# EAGLE library part SOIC127P790X216-8N (library SOIC127P790X216-8N)
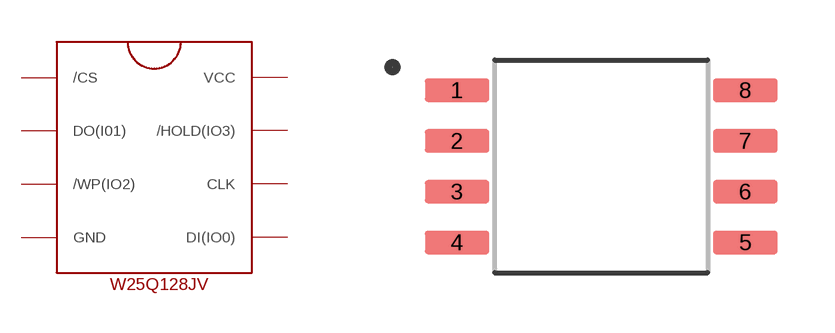
[diagram p0: symbol with the pads of SOIC127P790X216-8N; footprint SOIC127P790X216-8N]

Designator prefix U

## SOIC127P790X216-8N (A1_MIN: 0.15; A_MAX: 2.16; A_MIN: 2.16; A_NOM: 1.95; B_MAX: 0.48; B_MIN: 0.35; B_NOM: 0.415; D2_MAX: 0.0; D_MAX: 5.33; D_MIN: 5.13; D_NOM: 5.23; E1_MAX: 5.33; E1_MIN: 5.13; E1_NOM: 5.23; E2_MAX: 0.0; ENOM: 1.27; E_MAX: 8.1; E_MIN: 7.7; E_NOM: 7.9; L_MAX: 0.8; L_MIN: 0.5; L_NOM: 0.65; MANUFACTURER: Winbond Electronics; PIN_COUNT: 8.0; SNAPEDA_PACKAGE_ID: 61737; STANDARD: IPC 7351B)  [SOIC127P790X216-8N]

## SOIC127P790X216-8NW25Q128JVJSQ  [SOIC127P790X216-8N]
1  /CS
2  DO(I01)
3  /WP(IO2)
4  GND
5  DI(IO0)
6  CLK
7  /HOLD(IO3)
8  VCC

## Footprint SOIC127P790X216-8N (pad centres in mm)
smd 1.61 x 0.58: 1 -3.605,1.905; 2 -3.605,0.635; 3 -3.605,-0.635; 4 -3.605,-1.905; 5 3.605,-1.905; 6 3.605,-0.635; 7 3.605,0.635; 8 3.605,1.905